# Altium footprint library 开关按键.PcbLib: 1 footprints
Each footprint in its own frame and in the unit in brackets; x right, y up, seen from the top. Pads: shape width x height; smd on the part's side, far side on the other; paste and mask are expansions set on the pad; w line width, h text height; cw(c..) or ccw(c..) is an arc to the next point about the centre after c.
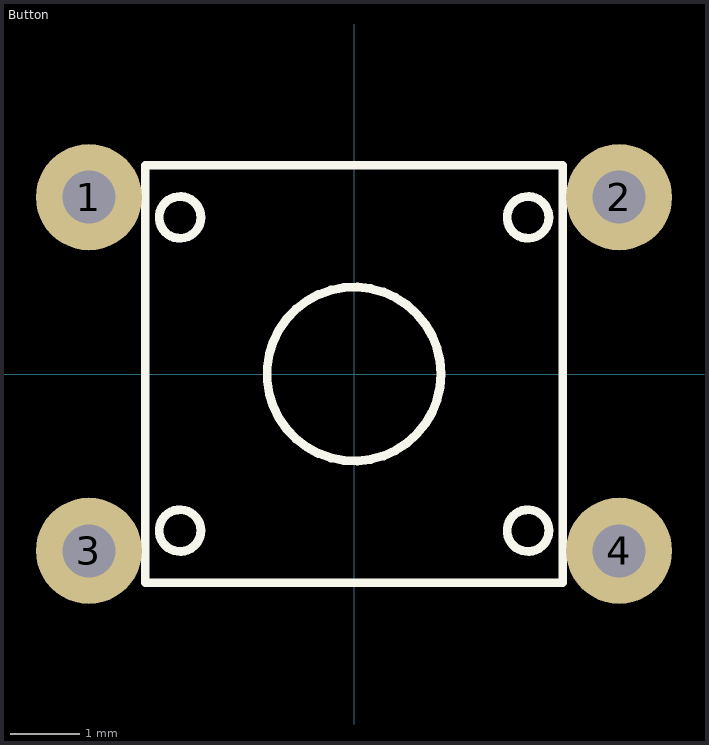
[diagram p0: the footprint, top view; thin cyan lines are the x and y axes]

## Button [mil] "Button with 4 pins"
pads (4):
  round 60 hole 30: 1(-150,100) 2(150,100) 3(-150,-100) 4(150,-100)
Top Overlay:
  circle w5: c98.43,-88.58 r11.81
  circle w5: c-98.43,-88.58 r11.81
  circle w5: c-98.43,88.58 r11.81
  circle w5: c98.43,88.58 r11.81
  circle w5: c0,0 r49.21
  lines w5: -118.11,-118.11 -118.11,118.11 118.11,118.11 118.11,-118.11 -118.11,-118.11